# Altium footprint library HgLib.PcbLib: 86 footprints (part 4 of 6)
Each footprint in its own frame and in the unit in brackets; x right, y up, seen from the top. Pads: shape width x height; smd on the part's side, far side on the other; paste and mask are expansions set on the pad; w line width, h text height; cw(c..) or ccw(c..) is an arc to the next point about the centre after c.
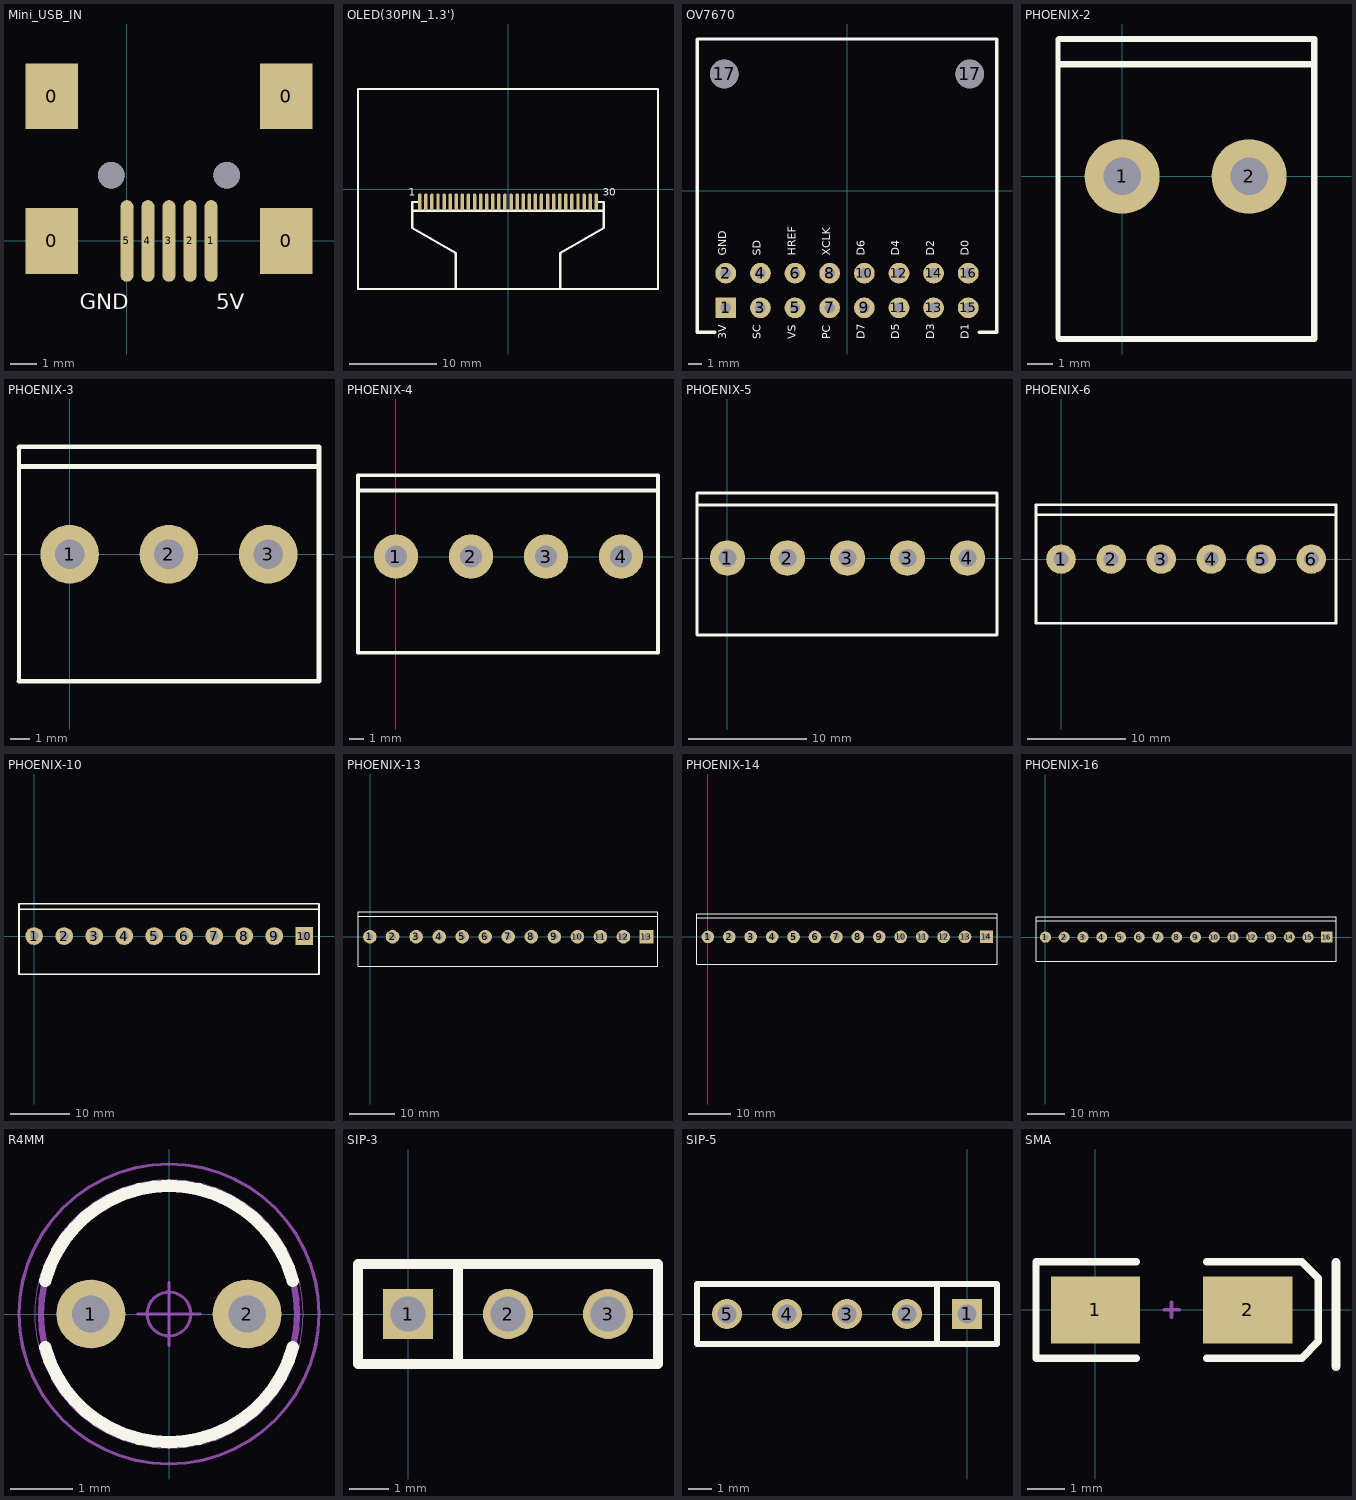
[diagram p3: the footprints below, top view; thin cyan lines are the x and y axes]

## Mini_USB_IN [mm]
pads (9):
  rect 2x2.5 smd: 0(-2.85,0) 0(-2.85,5.5) 0(6.05,0) 0(6.05,5.5)
  oval 0.5x3.1 smd: 1(3.2,0) 2(2.4,0) 3(1.6,0) 4(0.8,0) 5(0,0)
via 3.8,2.5 diameter 1 hole 1
via -0.6,2.5 diameter 1 hole 1
Top Overlay:
  text "5V" at 3.4,-2.8 h1.02
  text "GND" at -1.8,-2.8 h1.02

## OLED(30PIN_1.3') [mm]
pads (30):
  oval 0.4x2 smd: 1(-10.15,-1.5) 2(-9.45,-1.5) 3(-8.75,-1.5) 4(-8.05,-1.5) 5(-7.35,-1.5) 6(-6.65,-1.5) 7(-5.95,-1.5) 8(-5.25,-1.5) 9(-4.55,-1.5) 10(-3.85,-1.5) 11(-3.15,-1.5) 12(-2.45,-1.5) 13(-1.75,-1.5) 14(-1.05,-1.5) 15(-0.35,-1.5) 16(0.35,-1.5) 17(1.05,-1.5) 18(1.75,-1.5) 19(2.45,-1.5) 20(3.15,-1.5) 21(3.85,-1.5) 22(4.55,-1.5) 23(5.25,-1.5) 24(5.95,-1.5) 25(6.65,-1.5) 26(7.35,-1.5) 27(8.05,-1.5) 28(8.75,-1.5) 29(9.45,-1.5) 30(10.15,-1.5)
Top Overlay:
  lines w0.254: -10.15,-1.5 -11,-1.5 -11,-2.5 ; -6,-11.404 -6,-7.387 -11,-4.5 -11,-2.5 ; 6,-11.404 6,-7.387 11,-4.5 11,-2.5 ; 10.15,-1.5 11,-1.5 11,-2.5 ; -11,-2.5 11,-2.5 ; -17.25,-11.5 17.25,-11.5 17.25,11.5 -17.25,11.5 -17.25,-11.5
  text "1" at -11.4,-1.1 h1.52
  text "30" at 10.9,-1.1 h1.52

## OV7670 [mil]
pads (18):
  rect 60x60 / inner round 0 / far side round 0 hole 30: 1(-350,-337.5)
  round 60 / inner round 0 / far side round 0 hole 30: 2(-350,-237.5) 3(-250,-337.5) 4(-250,-237.5) 5(-150,-337.5) 6(-150,-237.5) 7(-50,-337.5) 8(-50,-237.5) 9(50,-337.5) 10(50,-237.5) 11(150,-337.5) 12(150,-237.5) 13(250,-337.5) 14(250,-237.5) 15(350,-337.5) 16(350,-237.5)
  round 82.68 / inner round 0 / far side round 0 hole 82.68: 17(-354.5,337.5) 17(354.5,337.5)
Top Overlay:
  lines w10: -381,-408.5 -432.5,-408.5 -432.5,438.5 432.5,438.5 432.5,-408.5 381,-408.5
  text "GND" at -340,-187.5 h40
  text "SD" at -240,-187.5 h40
  text "HREF" at -140,-187.5 h40
  text "XCLK" at -40,-187.5 h40
  text "D6" at 60,-187.5 h40
  text "D4" at 160,-187.5 h40
  text "D2" at 260,-187.5 h40
  text "D0" at 360,-187.5 h40
  text "3V" at -340,-427.5 h40
  text "SC" at -240,-427.5 h40
  text "VS" at -140,-427.5 h40
  text "PC" at -40,-427.5 h40
  text "D7" at 60,-427.5 h40
  text "D5" at 160,-427.5 h40
  text "D3" at 260,-427.5 h40
  text "D1" at 360,-427.5 h40

## PHOENIX-2 [mm]
pads (2):
  round 3 hole 1.5: 1(0,0) 2(5.08,0)
Top Overlay:
  lines w0.2: -2.57,-6.45 -2.57,5.5
  lines w0.254: -2.52,-6.5 7.68,-6.5 7.68,5.5 -2.52,5.5 ; -2.52,4.484 7.68,4.484

## PHOENIX-3 [mm]
pads (3):
  round 3 hole 1.5: 1(0,0) 2(5.08,0) 3(10.16,0)
Top Overlay:
  lines w0.2: -2.59,-6.5 -2.59,5.47
  lines w0.254: -2.59,-6.5 12.76,-6.5 12.76,5.5 -2.56,5.5 -2.59,5.47 ; -2.56,4.484 12.76,4.484

## PHOENIX-4 [mm]
pads (4):
  round 3 hole 1.5: 1(0,0) 2(5.08,0) 3(10.16,0) 4(15.24,0)
Top Overlay:
  lines w0.254: -2.57,-6.5 -2.57,5.5 ; -2.54,-6.5 17.74,-6.5 17.74,5.5 -2.54,5.5 ; -2.464,4.484 17.74,4.484

## PHOENIX-5 [mm]
pads (5):
  round 3 hole 1.5: 1(0,0) 2(5.08,0) 3(10.16,0) 3(15.24,0) 4(20.32,0)
Top Overlay:
  lines w0.254: -2.58,4.484 22.82,4.484 ; -2.58,-6.5 -2.58,5.5 22.82,5.5 22.82,-6.5 -2.58,-6.5

## PHOENIX-6 [mm]
pads (6):
  round 3 hole 1.5: 1(0,0) 2(5.08,0) 3(10.16,0) 4(15.24,0) 5(20.32,0) 6(25.4,0)
Top Overlay:
  lines w0.254: -2.54,4.484 27.9,4.484 ; -2.54,-6.5 27.9,-6.5 27.9,5.5 -2.54,5.5 -2.54,-6.5

## PHOENIX-10 [mm]
pads (10):
  round 3 hole 1.5: 1(0,0) 2(5.08,0) 3(10.16,0) 4(15.24,0) 5(20.32,0) 6(25.4,0) 7(30.48,0) 8(35.56,0) 9(40.64,0)
  rect 3x3 hole 1.5: 10(45.72,0)
Top Overlay:
  lines w0.254: -2.57,4.5 48.22,4.5 ; -2.57,-6.5 48.22,-6.5 48.22,5.5 -2.57,5.5 -2.57,-6.5

## PHOENIX-13 [mm]
pads (13):
  round 3 hole 1.5: 1(-0.056,0) 2(4.944,0) 3(10.16,0) 4(15.24,0) 5(20.32,0) 6(25.4,0) 7(30.48,0) 8(35.56,0) 9(40.64,0) 10(45.72,0) 11(50.8,0) 12(55.88,0)
  rect 3x3 hole 1.5: 13(60.96,0)
Top Overlay:
  lines w0.254: -2.667,4.572 63.5,4.572 ; -2.667,-6.5 -2.667,5.5 63.5,5.5 63.5,-6.5 -2.667,-6.5

## PHOENIX-14 [mm]
pads (14):
  round 3 hole 1.5: 1(0,0) 2(5.08,0) 3(10.16,0) 4(15.24,0) 5(20.32,0) 6(25.4,0) 7(30.48,0) 8(35.56,0) 9(40.64,0) 10(45.72,0) 11(50.8,0) 12(55.88,0) 13(60.96,0)
  rect 3x3 hole 1.5: 14(66.04,0)
Top Overlay:
  lines w0.254: -2.57,4.572 68.54,4.572 ; -2.57,-6.5 68.54,-6.5 68.54,5.5 -2.57,5.5 -2.57,-6.5

## PHOENIX-16 [mm]
pads (16):
  round 3 hole 1.5: 1(0,0) 2(5.08,0) 3(10.16,0) 4(15.24,0) 5(20.32,0) 6(25.4,0) 7(30.48,0) 8(35.56,0) 9(40.64,0) 10(45.72,0) 11(50.8,0) 12(55.88,0) 13(60.96,0) 14(66.04,0) 15(71.12,0)
  rect 3x3 hole 1.5: 16(76.2,0)
Top Overlay:
  lines w0.254: -2.57,4.5 78.7,4.5 ; -2.57,-6.5 78.7,-6.5 78.7,5.5 -2.57,5.5 -2.57,-6.5

## R4MM [mm]
pads (2):
  round 1.1 hole 0.6: 1(-1.25,0) 2(1.25,0)
Top Overlay:
  lines w0.2: -1.98,-0.531 ccw(c0,0) 1.98,-0.531 ; -1.98,0.531 cw(c0,0) 1.98,0.531
Mechanical 15:
  circle w0.1: c1.25,0 r0.5
  circle w0.1: c-1.25,0 r0.5
  circle w0.1: c0,0 r2.05
Mechanical 16:
  circle w0.1: c1.25,0 r0.5
  circle w0.1: c-1.25,0 r0.5
  circle w0.001: c0,0 r2.15
  circle w0.05: c0,0 r0.35
  circle w0.05: c0,0 r2.4
  lines w0.05: -0.5,0 0.5,0 ; 0,-0.5 0,0.5

## SIP-3 [mm]
pads (3):
  rect 1.27x1.27 / inner round 0 / far side round 0 hole 0.9 mask+0.102: 1(0,0)
  round 1.27 / inner round 0 / far side round 0 hole 0.9 mask+0.102: 2(2.54,0) 3(5.08,0)
Top Overlay:
  lines w0.254: 1.27,-1.27 1.27,1.27 ; -1.27,-1.27 6.35,-1.27 6.35,1.27 -1.27,1.27 -1.27,-1.27

## SIP-5 [mil]
pads (5):
  rect 50x50 / inner round 0 / far side round 0 hole 32 mask+4: 1(0,0)
  round 50 / inner round 0 / far side round 0 hole 32 mask+4: 2(-100,0) 3(-200,0) 4(-300,0) 5(-400,0)
Top Overlay:
  lines w10: -50,-50 -50,50 ; -450,-50 50,-50 50,50 -450,50 -450,-50

## SMA [mm] "DO-214-AC/SMA; 2 C-Bend Leads; Body 5 x 2.7 mm, inc. leads (LxW)"
height 2.44
pads (2):
  rect 2.4x1.8 smd: 1(0,0) 2(4.1,0)
Top Overlay:
  lines w0.2: 1.1,-1.3 -1.6,-1.3 -1.6,1.3 1.1,1.3 ; 3,-1.3 5.55,-1.3 6,-0.85 6,0.85 5.55,1.3 3,1.3
  lines w0.254: 6.477,-1.524 6.477,1.27
Mechanical 1:
  lines w0.1: 1.85,0 2.25,0 ; 2.05,-0.2 2.05,0.2